# Altium footprint library 1206 Footprint.PcbLib: 1 footprints
Each footprint in its own frame and in the unit in brackets; x right, y up, seen from the top. Pads: shape width x height; smd on the part's side, far side on the other; paste and mask are expansions set on the pad; w line width, h text height; cw(c..) or ccw(c..) is an arc to the next point about the centre after c.
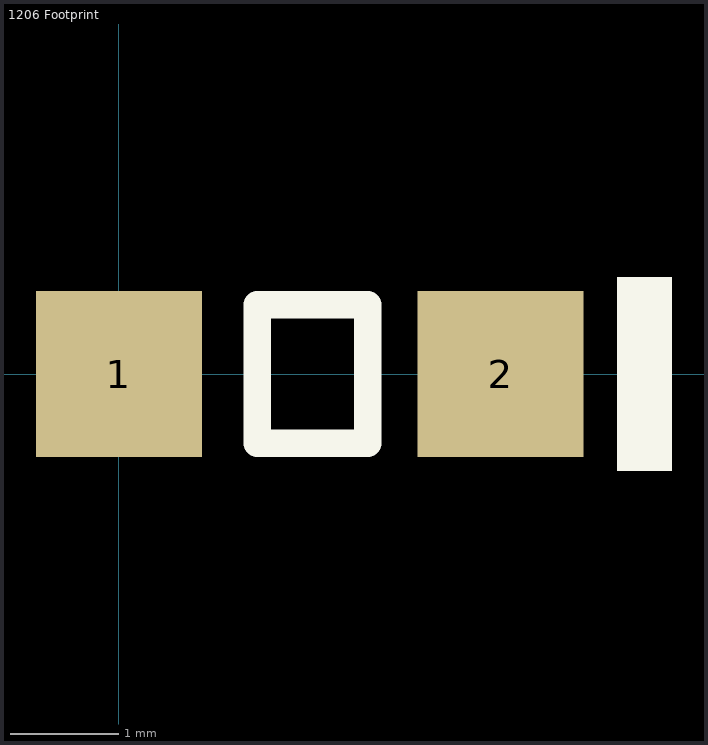
[diagram p0: the footprint, top view; thin cyan lines are the x and y axes]

## 1206 Footprint [mil]
pads (2):
  rect 60x60 smd: 1(0,0) 2(138,0)
Top Overlay:
  rectangle: 180,-35 200,35
  lines w10: 50,-25 90,-25 90,25 50,25 50,-25